# EAGLE library part HDMI05-CL02F3 (library HDMI05-CL02F3)
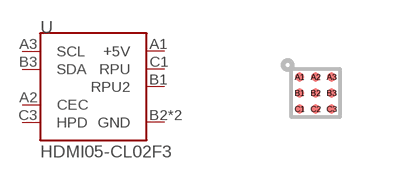
[diagram p0: symbol with the pads of 9-WFBGA; footprint 9-WFBGA]

Designator prefix U

## HDMI05-CL02F3  [9-WFBGA]
A1  +5V  pwr
A2  CEC
A3  SCL
B1  RPU2  pwr
B2  GND  pwr
B3  SDA
C1  RPU  pwr
C2  GND  pwr
C3  HPD

## Footprint 9-WFBGA (pad centres in mm)
smd 0.22 x 0.22: A1 -0.4,0.4; A2 0,0.4; A3 0.4,0.4; B1 -0.4,0; B2 0,0; B3 0.4,0; C1 -0.4,-0.4; C2 0,-0.4; C3 0.4,-0.4